# Altium schematic symbol library SPX3819M5-L-3-3.SchLib: 2 symbols
Pins are listed as number, name and electrical type; pins without a type are passive.

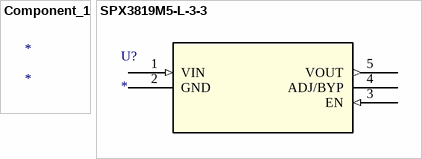
[diagram p0: symbols Component_1 to SPX3819M5-L-3-3]

## Component_1
designator *

## SPX3819M5-L-3-3
designator U?
No Description Available; Mfr_Name: MaxLinear / Exar; RefDes: RefDes; Type: Type
footprint SOT-23-5_VAR-AA
pins: 1 VIN (in), 2 GND (power), 3 EN (in), 4 ADJ/BYP, 5 VOUT (out)